# EAGLE library part 74HC393 (library _RoweTel)
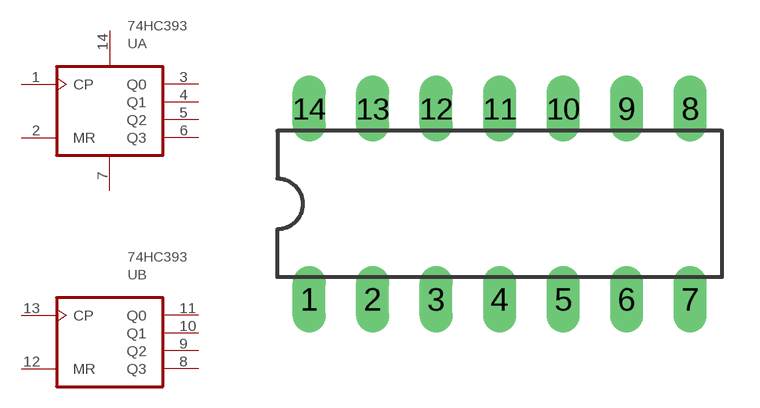
[diagram p74: symbol with the pads of DIL14; footprint DIL14]

Designator prefix U; gates A=74393P B=74393

## 74HC393  [DIL14]
1  A:CP  in
2  A:MR  in
3  A:Q0  out
4  A:Q1  out
5  A:Q2  out
6  A:Q3  out
7  A:GND  pwr
8  B:Q3  out
9  B:Q2  out
10  B:Q1  out
11  B:Q0  out
12  B:MR  in
13  B:CP  in
14  A:VCC  pwr

## Footprint DIL14 (pad centres in mm)
Dual In Line Package
drill 0.813 long: 1 -7.62,-3.81; 2 -5.08,-3.81; 3 -2.54,-3.81; 4 0,-3.81; 5 2.54,-3.81; 6 5.08,-3.81; 7 7.62,-3.81; 8 7.62,3.81; 9 5.08,3.81; 10 2.54,3.81; 11 0,3.81; 12 -2.54,3.81; 13 -5.08,3.81; 14 -7.62,3.81